# EAGLE library part RN2483 (library RN2483)
Microchip RN2483 LoRaWAN Module
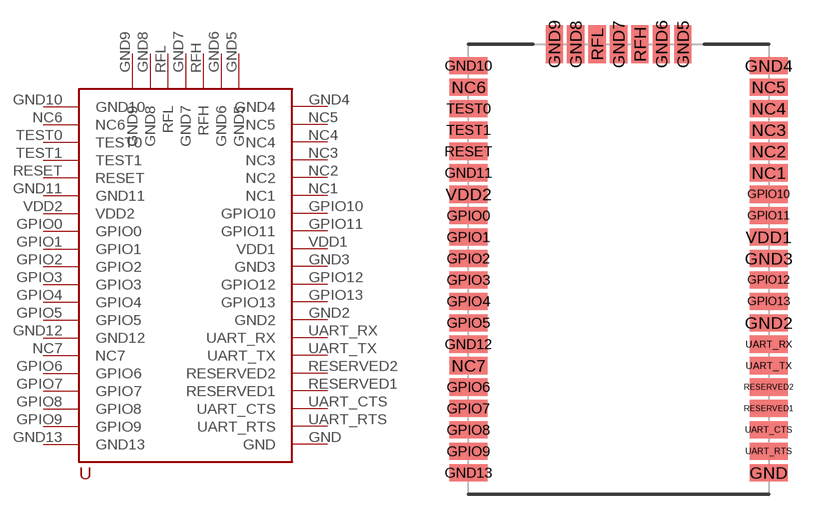
[diagram p0: symbol with the pads of RN2483; footprint RN2483]

Designator prefix -

## RN2483  [RN2483]
GND  GND  pwr
GND2  GND2  pwr
GND3  GND3  pwr
GND4  GND4  pwr
GND5  GND5  pwr
GND6  GND6  pwr
GND7  GND7  pwr
GND8  GND8  pwr
GND9  GND9  pwr
GND10  GND10  pwr
GND11  GND11  pwr
GND12  GND12  pwr
GND13  GND13
GPIO0  GPIO0
GPIO1  GPIO1
GPIO2  GPIO2
GPIO3  GPIO3
GPIO4  GPIO4
GPIO5  GPIO5
GPIO6  GPIO6
GPIO7  GPIO7
GPIO8  GPIO8
GPIO9  GPIO9
GPIO10  GPIO10
GPIO11  GPIO11
GPIO12  GPIO12
GPIO13  GPIO13
NC1  NC1  nc
NC2  NC2  nc
NC3  NC3  nc
NC4  NC4  nc
NC5  NC5  nc
NC6  NC6  nc
NC7  NC7  nc
RESERVED1  RESERVED1  nc
RESERVED2  RESERVED2  nc
RESET  RESET  in
RFH  RFH
RFL  RFL
TEST0  TEST0
TEST1  TEST1
UART_CTS  UART_CTS
UART_RTS  UART_RTS
UART_RX  UART_RX
UART_TX  UART_TX
VDD1  VDD1  pwr
VDD2  VDD2  pwr

## Footprint RN2483 (pad centres in mm)
Microchip RN2483 LoRaWAN Module
smd 2.25 x 1.016: GND 17.78,1.27; GND2 17.78,10.16; GND3 17.78,13.97; GND4 17.78,25.4; GND10 0,25.4; GND11 0,19.05; GND12 0,8.89; GND13 0,1.27; GPIO0 0,16.51; GPIO1 0,15.24; GPIO2 0,13.97; GPIO3 0,12.7; GPIO4 0,11.43; GPIO5 0,10.16; GPIO6 0,6.35; GPIO7 0,5.08; GPIO8 0,3.81; GPIO9 0,2.54; GPIO10 17.78,17.78; GPIO11 17.78,16.51; GPIO12 17.78,12.7; GPIO13 17.78,11.43; NC1 17.78,19.05; NC2 17.78,20.32; NC3 17.78,21.59; NC4 17.78,22.86; NC5 17.78,24.13; NC6 0,24.13; NC7 0,7.62; RESERVED1 17.78,5.08; RESERVED2 17.78,6.35; RESET 0,20.32; TEST0 0,22.86; TEST1 0,21.59; UART_CTS 17.78,3.81; UART_RTS 17.78,2.54; UART_RX 17.78,8.89; UART_TX 17.78,7.62; VDD1 17.78,15.24; VDD2 0,17.78
smd 1.016 x 2.25: GND5 12.7,26.67; GND6 11.43,26.67; GND7 8.89,26.67; GND8 6.35,26.67; GND9 5.08,26.67; RFH 10.16,26.67; RFL 7.62,26.67